# EAGLE library part MSP430 (library LearningByMaking2)
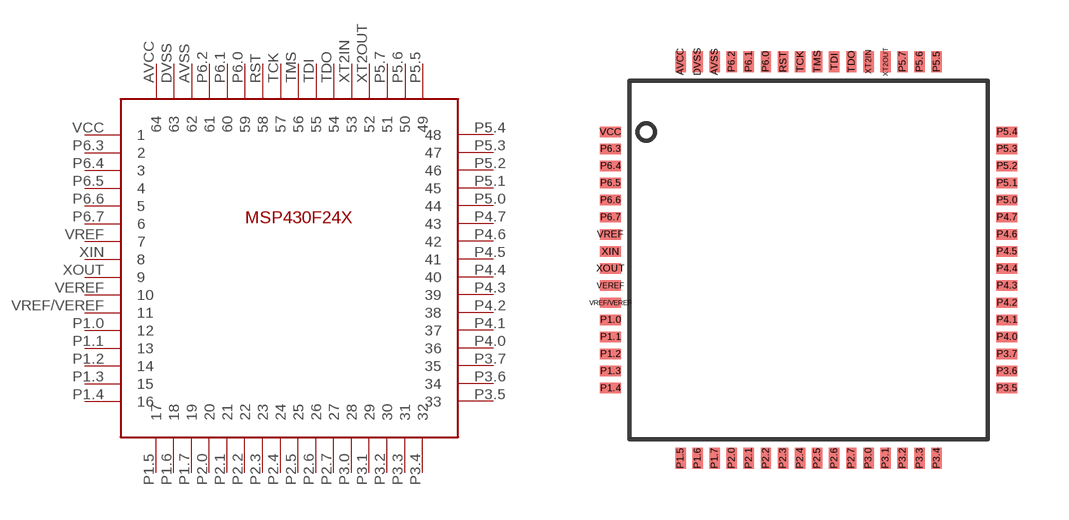
[diagram p0: symbol with the pads of MSP430; footprint MSP430]

Designator prefix -

## MSP430  [MSP430]
AVCC  64
AVSS  62
DVSS  63
P1.0  12
P1.1  13
P1.2  14
P1.3  15
P1.4  16
P1.5  17
P1.6  18
P1.7  19
P2.0  20
P2.1  21
P2.2  22
P2.3  23
P2.4  24
P2.5  25
P2.6  26
P2.7  27
P3.0  28
P3.1  29
P3.2  30
P3.3  31
P3.4  32
P3.5  33
P3.6  34
P3.7  35
P4.0  36
P4.1  37
P4.2  38
P4.3  39
P4.4  40
P4.5  41
P4.6  42
P4.7  43
P5.0  44
P5.1  45
P5.2  46
P5.3  47
P5.4  48
P5.5  49
P5.6  50
P5.7  51
P6.0  59
P6.1  60
P6.2  61
P6.3  2
P6.4  3
P6.5  4
P6.6  5
P6.7  6
RST  58
TCK  57
TDI  55
TDO  54
TMS  56
VCC  1
VEREF  10
VREF  7
VREF/VEREF  11
XIN  8
XOUT  9
XT2IN  53
XT2OUT  52

## Footprint MSP430 (pad centres in mm)
smd 0.305 x 0.61: AVCC -3.81,5.5; AVSS -2.81,5.5; DVSS -3.31,5.5; P1.5 -3.81,-6.1; P1.6 -3.31,-6.1; P1.7 -2.81,-6.1; P2.0 -2.31,-6.1; P2.1 -1.81,-6.1; P2.2 -1.31,-6.1; P2.3 -0.81,-6.1; P2.4 -0.31,-6.1; P2.5 0.19,-6.1; P2.6 0.69,-6.1; P2.7 1.19,-6.1; P3.0 1.69,-6.1; P3.1 2.19,-6.1; P3.2 2.69,-6.1; P3.3 3.19,-6.1; P3.4 3.69,-6.1; P5.5 3.69,5.5; P5.6 3.19,5.5; P5.7 2.69,5.5; P6.0 -1.31,5.5; P6.1 -1.81,5.5; P6.2 -2.31,5.5; RST -0.81,5.5; TCK -0.31,5.5; TDI 0.69,5.5; TDO 1.19,5.5; TMS 0.19,5.5; XT2IN 1.69,5.5; XT2OUT 2.19,5.5
smd 0.61 x 0.305: P1.0 -5.86,-2.05; P1.1 -5.86,-2.55; P1.2 -5.86,-3.05; P1.3 -5.86,-3.55; P1.4 -5.86,-4.05; P3.5 5.74,-4.05; P3.6 5.74,-3.55; P3.7 5.74,-3.05; P4.0 5.74,-2.55; P4.1 5.74,-2.05; P4.2 5.74,-1.55; P4.3 5.74,-1.05; P4.4 5.74,-0.55; P4.5 5.74,-0.05; P4.6 5.74,0.45; P4.7 5.74,0.95; P5.0 5.74,1.45; P5.1 5.74,1.95; P5.2 5.74,2.45; P5.3 5.74,2.95; P5.4 5.74,3.45; P6.3 -5.86,2.95; P6.4 -5.86,2.45; P6.5 -5.86,1.95; P6.6 -5.86,1.45; P6.7 -5.86,0.95; VCC -5.86,3.45; VEREF -5.86,-1.05; VREF -5.86,0.45; VREF/VEREF -5.86,-1.55; XIN -5.86,-0.05; XOUT -5.86,-0.55